# Altium footprint library Capacitors.PcbLib: 34 footprints (part 2 of 3)
Each footprint in its own frame and in the unit in brackets; x right, y up, seen from the top. Pads: shape width x height; smd on the part's side, far side on the other; paste and mask are expansions set on the pad; w line width, h text height; cw(c..) or ccw(c..) is an arc to the next point about the centre after c.
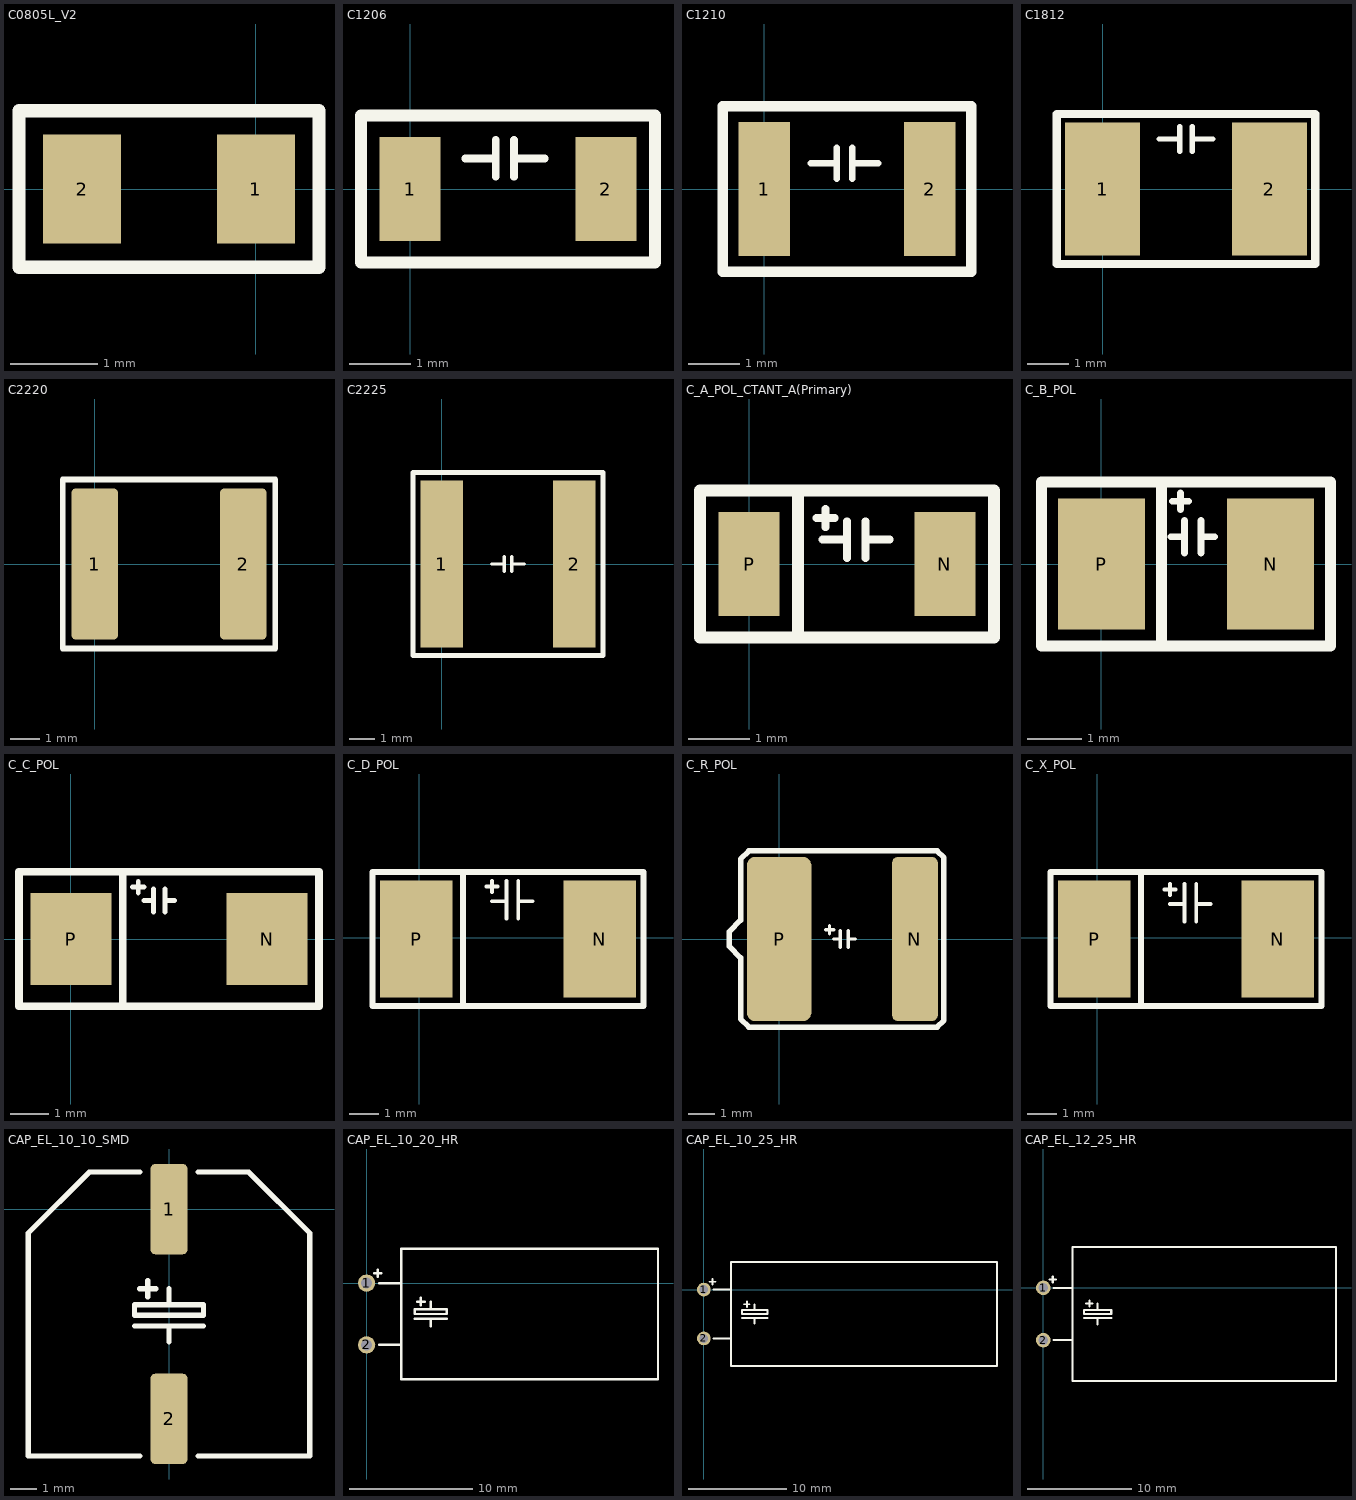
[diagram p1: the footprints below, top view; thin cyan lines are the x and y axes]

## C0805L_V2 [mm]
pads (2):
  rect 0.9x1.25 smd: 1(0,0) 2(-2,0)
Top Overlay:
  lines w0.15: -2.725,-0.9 -2.725,0.9 0.725,0.9 0.725,-0.9 -2.725,-0.9
Top Assembly:
  text ".Designator" at -5.499,-0.3 h0.9
3D body "User Library-cap_0805_lowprofile.STEP": height 0.95, standoff 0, extent -1.975,-0.6 0.025,0.6

## C1206 [mm]
pads (2):
  rect 1x1.7 smd: 1(0,0) 2(3.2,0)
Top Overlay:
  lines w0.127: 0.9,0.5 1.4,0.5 ; 1.4,0.2 1.4,0.8 ; 1.7,0.2 1.7,0.8 ; 1.7,0.5 2.2,0.5
  lines w0.2: -0.8,-1.2 -0.8,1.2 4,1.2 4,-1.2 -0.8,-1.2
Top Assembly:
  text ".Designator" at -2.449,-0.717 h0.8
3D body "User Library-cap_1206-1.STEP": height 1.6, standoff 0, extent 0,-0.8 3.2,0.8

## C1210 [mm]
pads (2):
  rect 1x2.6 smd: 1(0,0) 2(3.2,0)
Top Overlay:
  lines w0.127: 0.9,0.5 1.4,0.5 ; 1.4,0.2 1.4,0.8 ; 1.7,0.2 1.7,0.8 ; 1.7,0.5 2.2,0.5
  lines w0.2: -0.8,-1.6 4,-1.6 4,1.6 -0.8,1.6 -0.8,-1.6
Top Assembly:
  text ".Designator" at -2.949,-0.975 h0.9
3D body "User Library-cap_1210.STEP": height 2.5, standoff 0, extent 0,-1.25 3.2,1.25

## C1812 [mm]
pads (2):
  rect 1.8x3.2 smd: 1(0,0) 2(4,0)
Top Overlay:
  lines w0.127: 1.35,1.2 1.85,1.2 ; 1.85,0.9 1.85,1.5 ; 2.15,0.9 2.15,1.5 ; 2.15,1.2 2.65,1.2
  lines w0.2: -1.1,-1.8 5.1,-1.8 5.1,1.8 -1.1,1.8 -1.1,-1.8
Top Assembly:
  text ".Designator" at -2.998,-0.733 h1
3D body "SW3dPS-1812 SMD Capacitor.STEP": height 1.6, standoff 0, extent -0.25,-1.6 4.25,1.6

## C2220 [mm]
pads (2):
  rrect20% 1.6x5.2 smd: 1(0,0) 2(5.1,0)
Top Overlay:
  lines w0.2: -1.1,-2.9 -1.1,2.9 6.2,2.9 6.2,-2.9 -1.1,-2.9
Top Assembly:
  text ".Designator" at -2.398,-0.333 h1
3D body "SW3dPS-CAPC5750.STEP": height 2.5, standoff 0, extent -0.3,-2.5 5.4,2.5

## C2225 [mm]
pads (2):
  rect 1.7x6.7 smd: 1(0,0) 2(5.3,0)
Top Overlay:
  lines w0.127: 2,0 2.5,0 ; 2.5,-0.3 2.5,0.3 ; 2.8,-0.3 2.8,0.3 ; 2.8,0 3.3,0
  lines w0.2: -1.15,-3.65 6.45,-3.65 6.45,3.65 -1.15,3.65 -1.15,-3.65
Top Assembly:
  text ".Designator" at -1.849,-2.125 h0.9
3D body "User Library-SMD CAPACITOR2225.STEP": height 1, standoff 0, extent -0.15,-3.15 5.45,3.15

## C_A_POL_CTANT_A(Primary) [mm]
pads (2):
  rect 1x1.7 smd: N(3.2,0) P(0,0)
Top Overlay:
  lines w0.127: 1.1,0.75 1.4,0.75 ; 1.2,0.4 1.6,0.4 ; 1.25,0.6 1.25,0.9 ; 1.6,0.1 1.6,0.7 ; 1.9,0.1 1.9,0.7 ; 1.9,0.4 2.3,0.4
  lines w0.2: 0.8,-1.2 0.8,1.2 ; -0.8,-1.2 -0.8,1.2 4,1.2 4,-1.2 -0.8,-1.2
Top Assembly:
  text ".Designator" at -1.099,-0.733 h0.7
3D body "A Case SMT Capacitor.STEP": height 1.77, standoff 0.17, extent 0.028,-0.8 3.202,0.8

## C_B_POL [mm]
pads (2):
  rect 1.6x2.4 smd: N(3.1,0) P(0,0)
Top Overlay:
  lines w0.127: 1.275,0.5 1.525,0.5 ; 1.3,1.15 1.6,1.15 ; 1.45,1 1.45,1.3 ; 1.525,0.2 1.525,0.8 ; 1.825,0.2 1.825,0.8 ; 1.825,0.5 2.075,0.5
  lines w0.2: 1.1,-1.5 1.1,1.5 ; -1.1,-1.5 -1.1,1.5 4.2,1.5 4.2,-1.5 -1.1,-1.5
Top Assembly:
  text ".Designator" at -0.699,-0.933 h0.7
3D body "User Library-AVX_BCASE.STEP": height 2.03, standoff 0, extent -0.3,-1.465 3.4,1.465

## C_C_POL [mm]
pads (2):
  rect 2.1x2.4 smd: N(5.1,0) P(0,0)
Top Overlay:
  lines w0.127: 1.6,1.35 1.9,1.35 ; 1.75,1.2 1.75,1.5 ; 1.9,1 2.15,1 ; 2.15,0.7 2.15,1.3 ; 2.45,0.7 2.45,1.3 ; 2.45,1 2.7,1
  lines w0.2: 1.35,-1.75 1.35,1.75 ; -1.35,-1.75 6.45,-1.75 6.45,1.75 -1.35,1.75 -1.35,-1.75
Top Assembly:
  text ".Designator" at 0.401,-0.733 h0.7
3D body "User Library-CAP_TANT_6032-28_y.STEP": height 2.84, standoff 0.04, extent -0.6,-1.75 5.7,1.75

## C_D_POL [mm]
pads (2):
  rect 2.5x4 smd: N(6.2,-0.05) P(-0.1,-0.05)
Top Overlay:
  lines w0.127: 2.3,1.75 2.7,1.75 ; 2.5,1.25 3,1.25 ; 2.5,1.55 2.5,1.95 ; 3,0.65 3,1.95 ; 3.4,0.65 3.4,1.95 ; 3.4,1.25 3.9,1.25
  lines w0.2: 1.5,-2.35 1.5,2.25 ; -1.6,-2.35 -1.6,2.25 7.7,2.25 7.7,-2.35 -1.6,-2.35
Top Assembly:
  text ".Designator" at -0.398,-1.133 h1
3D body "User Library-CAP_TANT_7343-31.STEP": height 3.1, standoff 0, extent -0.775,-2.35 6.825,2.25

## C_R_POL [mm]
pads (2):
  rrect25% 1.7x6.1 smd: N(5.05,0)
  rrect25% 2.4x6.1 smd: P(0,0)
Top Overlay:
  lines w0.127: 1.725,0.35 2.025,0.35 ; 1.875,0.2 1.875,0.5 ; 2.025,0 2.275,0 ; 2.275,-0.3 2.275,0.3 ; 2.575,-0.3 2.575,0.3 ; 2.575,0 2.825,0
  lines w0.2: -1.85,-0.275 -1.425,-0.7 -1.425,-2.975 -1.125,-3.275 5.875,-3.275 6.125,-3.025 6.125,3.025 5.875,3.275 -1.125,3.275 -1.425,2.975 -1.425,0.7 -1.85,0.275 -1.85,-0.275
Top Assembly:
  text ".Designator" at -2.598,-2.233 h1
3D body "User Library-Cap Size R.STEP": height 3.48, standoff 0.02, extent -1.5,-2.984 5.688,2.985

## C_X_POL [mm]
pads (2):
  rect 2.5x4 smd: N(6.2,-0.05) P(-0.1,-0.05)
Top Overlay:
  lines w0.127: 2.3,1.65 2.7,1.65 ; 2.5,1.15 3,1.15 ; 2.5,1.45 2.5,1.85 ; 3,0.55 3,1.85 ; 3.4,0.55 3.4,1.85 ; 3.4,1.15 3.9,1.15
  lines w0.2: 1.5,-2.35 1.5,2.25 ; -1.6,-2.35 7.7,-2.35 7.7,2.25 -1.6,2.25 -1.6,-2.35
Top Assembly:
  text ".Designator" at -0.498,-1.233 h1
3D body "T521X336M050ATE050.step": height 4.31, standoff 0.01, extent -0.75,-2.35 6.85,2.25

## CAP_EL_10_10_SMD [mm]
height 10
pads (2):
  rrect25% 1.4x3.4 smd: 1(0,0) 2(0,-7.9)
Top Overlay:
  lines w0.2: -1.3,-4.4 1.3,-4.4 ; -1.1,-9.3 -5.3,-9.3 -5.3,-0.9 -3,1.4 -1.1,1.4 ; -1.1,-3 -0.5,-3 ; -0.8,-3.3 -0.8,-2.7 ; 0,-5 0,-4.4 ; 0,-3.6 0,-3 ; 1.1,-9.3 5.3,-9.3 5.3,-0.9 3,1.4 1.1,1.4 ; -1.3,-4 -1.3,-3.6 1.3,-3.6 1.3,-4 -1.3,-4
Top Assembly:
  text ".Designator" at 3.233,-8.998 h1
3D body "User Library-CL_series_size10x10.STEP": height 10, standoff 0, extent -5.15,-9.4 5.15,1.5

## CAP_EL_10_20_HR [mm]
pads (2):
  round 1.4 hole 0.9: 1(0,0) 2(0,-5)
Top Overlay:
  lines w0.2: 0.6,0.8 1.2,0.8 ; 0.9,0.5 0.9,1.1 ; 1,-5 2.8,-5 ; 1,0 2.8,0 ; 3.9,-2.9 6.5,-2.9 ; 4.1,-1.5 4.7,-1.5 ; 4.4,-1.8 4.4,-1.2 ; 5.2,-3.5 5.2,-2.9 ; 5.2,-2.1 5.2,-1.5 ; 2.8,-7.8 23.6,-7.8 23.6,2.8 2.8,2.8 2.8,-7.8 ; 3.9,-2.5 3.9,-2.1 6.5,-2.1 6.5,-2.5 3.9,-2.5
Top Assembly:
  text ".Designator" at 8.202,-2.833 h1
3D body "User Library-CAP_Electrolytic_10X20.STEP": height 9.99, standoff 0.01, extent -1.495,-7.5 23.325,2.5

## CAP_EL_10_25_HR [mm]
pads (2):
  round 1.4 hole 0.9: 1(0,0) 2(0,-5)
Top Overlay:
  lines w0.2: 0.6,0.8 1.2,0.8 ; 0.9,0.5 0.9,1.1 ; 1,-5 2.8,-5 ; 1,0 2.8,0 ; 3.9,-2.9 6.5,-2.9 ; 4.1,-1.5 4.7,-1.5 ; 4.4,-1.8 4.4,-1.2 ; 5.2,-3.5 5.2,-2.9 ; 5.2,-2.1 5.2,-1.5 ; 2.8,-7.8 30,-7.8 30,2.8 2.8,2.8 2.8,-7.8 ; 3.9,-2.5 3.9,-2.1 6.5,-2.1 6.5,-2.5 3.9,-2.5
Top Assembly:
  text ".Designator" at 8.302,-2.833 h1
3D body "CapAluRadial_D100H250.STEP": height 10.53, standoff 0.07, extent -0.1,-7.73 29.9,2.725

## CAP_EL_12_25_HR [mm]
pads (2):
  round 1.4 hole 0.9: 1(0,0) 2(0,-5)
Top Overlay:
  lines w0.2: 0.6,0.8 1.2,0.8 ; 0.9,0.5 0.9,1.1 ; 1,-5 2.8,-5 ; 1,0 2.8,0 ; 3.9,-2.9 6.5,-2.9 ; 4.1,-1.5 4.7,-1.5 ; 4.4,-1.8 4.4,-1.2 ; 5.2,-3.5 5.2,-2.9 ; 5.2,-2.1 5.2,-1.5 ; 2.8,-8.9 2.8,3.9 28,3.9 28,-8.9 2.8,-8.9 ; 3.9,-2.5 6.5,-2.5 6.5,-2.1 3.9,-2.1 3.9,-2.5
Top Assembly:
  text ".Designator" at 7.402,-2.833 h1
3D body "User Library-Cap-EL(12_5x25-5).STEP": height 12.55, standoff 0.05, extent -0.402,-8.751 27.9,3.751